# Altium schematic symbol library 5-146285-3.SchLib: 1 symbol
Pins are listed as number, name and electrical type; pins without a type are passive.

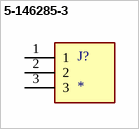
[diagram p0: symbol 5-146285-3]

## 5-146285-3
designator J?
MF: {'manufacturer': u'TE Connectivity'}; MP: 5-146285-3; Package: None; Price: None; Value: *; Availability: Unavailable
footprint TE_5-146285-3
pins: 1, 2, 3